# EAGLE library part PCM5122 (library raspberry)
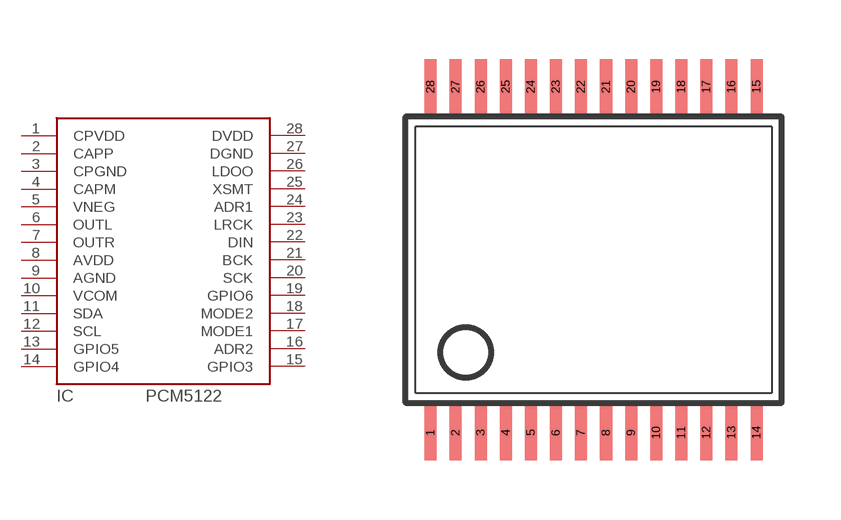
[diagram p0: symbol with the pads of SSOP28; footprint SSOP28]

Designator prefix IC

## PCM5122  [SSOP28]
1  CPVDD
2  CAPP
3  CPGND
4  CAPM
5  VNEG
6  OUTL
7  OUTR
8  AVDD
9  AGND
10  VCOM
11  SDA
12  SCL
13  GPIO5
14  GPIO4
15  GPIO3
16  ADR2
17  MODE1
18  MODE2
19  GPIO6
20  SCK
21  BCK
22  DIN
23  LRCK
24  ADR1
25  XSMT
26  LDOO
27  DGND
28  DVDD

## Footprint SSOP28 (pad centres in mm)
smd 0.305 x 1.397: 1 -4.128,-4.381; 2 -3.493,-4.381; 3 -2.857,-4.381; 4 -2.223,-4.381; 5 -1.587,-4.381; 6 -0.953,-4.381; 7 -0.318,-4.381; 8 0.318,-4.381; 9 0.953,-4.381; 10 1.587,-4.381; 11 2.223,-4.381; 12 2.857,-4.381; 13 3.493,-4.381; 14 4.128,-4.381; 15 4.128,4.381; 16 3.493,4.381; 17 2.857,4.381; 18 2.223,4.381; 19 1.587,4.381; 20 0.953,4.381; 21 0.318,4.381; 22 -0.318,4.381; 23 -0.953,4.381; 24 -1.587,4.381; 25 -2.223,4.381; 26 -2.857,4.381; 27 -3.493,4.381; 28 -4.128,4.381